# Altium schematic symbol library Diode_TVS.Schlib: 1 symbol
Pins are listed as number, name and electrical type; pins without a type are passive.

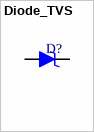
[diagram p0: symbol Diode_TVS]

## Diode_TVS
designator D?
TVS Diode
pins: A, C